# Altium footprint library SOP.PcbLib: 3 footprints
Each footprint in its own frame and in the unit in brackets; x right, y up, seen from the top. Pads: shape width x height; smd on the part's side, far side on the other; paste and mask are expansions set on the pad; w line width, h text height; cw(c..) or ccw(c..) is an arc to the next point about the centre after c.
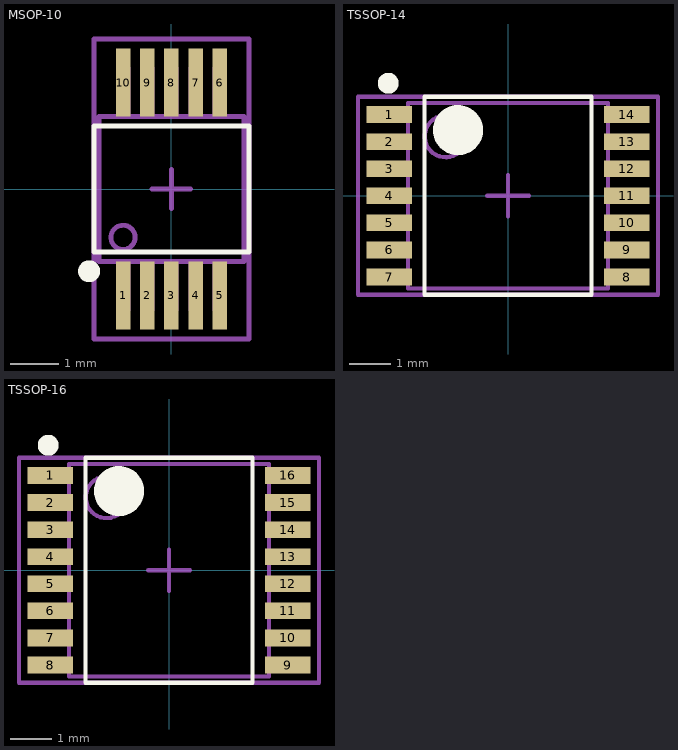
[diagram p0: the footprints below, top view; thin cyan lines are the x and y axes]

## MSOP-10 [mm]
height 1.1
pads (10):
  rect 0.3x1.4 smd: 1(-1,-2.2) 2(-0.5,-2.2) 3(0,-2.2) 4(0.5,-2.2) 5(1,-2.2) 6(1,2.2) 7(0.5,2.2) 8(0,2.2) 9(-0.5,2.2) 10(-1,2.2)
Top Overlay:
  circle w0.254: c-1.7,-1.7 r0.1
  lines w0.1: -1.6,-1.3 1.6,-1.3 1.6,1.3 -1.6,1.3 -1.6,-1.3
Top Package:
  circle w0.1: c-1,-1 r0.25
  lines w0.1: -1.1,-2 -0.9,-2 ; -1.1,-1.5 -1.1,-2.5 -0.9,-2.5 -0.9,-1.5 ; -1.1,1.5 -1.1,2.5 -0.9,2.5 -0.9,1.5 ; -1.1,2 -0.9,2 ; -0.6,-2 -0.4,-2 ; -0.6,-1.5 -0.6,-2.5 -0.4,-2.5 -0.4,-1.5 ; -0.6,1.5 -0.6,2.5 -0.4,2.5 -0.4,1.5 ; -0.6,2 -0.4,2 ; -0.1,-2 0.1,-2 ; -0.1,-1.5 -0.1,-2.5 0.1,-2.5 0.1,-1.5 ; -0.1,1.5 -0.1,2.5 0.1,2.5 0.1,1.5 ; -0.1,2 0.1,2 ; 0.4,-2 0.6,-2 ; 0.4,-1.5 0.4,-2.5 0.6,-2.5 0.6,-1.5 ; 0.4,1.5 0.4,2.5 0.6,2.5 0.6,1.5 ; 0.4,2 0.6,2 ; 0.9,-2 1.1,-2 ; 0.9,-1.5 0.9,-2.5 1.1,-2.5 1.1,-1.5 ; 0.9,1.5 0.9,2.5 1.1,2.5 1.1,1.5 ; 0.9,2 1.1,2 ; -1.5,-1.5 1.5,-1.5 1.5,1.5 -1.5,1.5 -1.5,-1.5
Top Border:
  lines w0.1: -0.4,0 0.4,0 ; 0,-0.4 0,0.4 ; -1.6,-3.1 -1.6,3.1 1.6,3.1 1.6,-3.1 -1.6,-3.1
3D body "MSOP-10.step": height 1.05, standoff 0, extent -1.5,-2.514 1.5,2.514

## TSSOP-14 [mm]
height 1.1
pads (14):
  rect 1.1x0.4 smd: 1(-2.85,1.95) 2(-2.85,1.3) 3(-2.85,0.65) 4(-2.85,0) 5(-2.85,-0.65) 6(-2.85,-1.3) 7(-2.85,-1.95) 8(2.85,-1.95) 9(2.85,-1.3) 10(2.85,-0.65) 11(2.85,0) 12(2.85,0.65) 13(2.85,1.3) 14(2.85,1.95)
Top Overlay:
  circle w0.25: c-2.875,2.7 r0.125
  circle w0.6: c-1.2,1.575 r0.3
  lines w0.1: -2,-2.375 -2,2.375 2,2.375 2,-2.375 -2,-2.375
Top Package:
  circle w0.1: c-1.5,1.425 r0.5
  lines w0.1: -2.4,-2.05 -3.2,-2.05 -3.2,-1.85 -2.4,-1.85 ; -2.4,-1.4 -3.2,-1.4 -3.2,-1.2 -2.4,-1.2 ; -2.4,-0.75 -3.2,-0.75 -3.2,-0.55 -2.4,-0.55 ; -2.4,-0.1 -3.2,-0.1 -3.2,0.1 -2.4,0.1 ; -2.4,0.55 -3.2,0.55 -3.2,0.75 -2.4,0.75 ; -2.4,1.2 -3.2,1.2 -3.2,1.4 -2.4,1.4 ; -2.4,1.85 -3.2,1.85 -3.2,2.05 -2.4,2.05 ; 2.4,-2.05 3.2,-2.05 3.2,-1.85 2.4,-1.85 ; 2.4,-1.4 3.2,-1.4 3.2,-1.2 2.4,-1.2 ; 2.4,-0.75 3.2,-0.75 3.2,-0.55 2.4,-0.55 ; 2.4,-0.1 3.2,-0.1 3.2,0.1 2.4,0.1 ; 2.4,0.55 3.2,0.55 3.2,0.75 2.4,0.75 ; 2.4,1.2 3.2,1.2 3.2,1.4 2.4,1.4 ; 2.4,1.85 3.2,1.85 3.2,2.05 2.4,2.05 ; -2.4,-2.225 2.4,-2.225 2.4,2.225 -2.4,2.225 -2.4,-2.225
Top Border:
  lines w0.1: -0.5,0 0.5,0 ; 0,-0.5 0,0.5 ; -3.6,-2.375 3.6,-2.375 3.6,2.375 -3.6,2.375 -3.6,-2.375
3D body "TSSOP-14.STEP": height 1.2, standoff 0, extent -3.2,-2.5 3.2,2.5

## TSSOP-16 [mm]
height 1.1
pads (16):
  rect 1.1x0.4 smd: 1(-2.85,2.275) 2(-2.85,1.625) 3(-2.85,0.975) 4(-2.85,0.325) 5(-2.85,-0.325) 6(-2.85,-0.975) 7(-2.85,-1.625) 8(-2.85,-2.275) 9(2.85,-2.275) 10(2.85,-1.625) 11(2.85,-0.975) 12(2.85,-0.325) 13(2.85,0.325) 14(2.85,0.975) 15(2.85,1.625) 16(2.85,2.275)
Top Overlay:
  circle w0.25: c-2.9,3 r0.125
  circle w0.6: c-1.2,1.9 r0.3
  lines w0.1: -2,-2.7 -2,2.7 2,2.7 2,-2.7 -2,-2.7
Top Package:
  circle w0.1: c-1.5,1.75 r0.5
  lines w0.1: -2.4,-2.375 -3.2,-2.375 -3.2,-2.175 -2.4,-2.175 ; -2.4,-1.725 -3.2,-1.725 -3.2,-1.525 -2.4,-1.525 ; -2.4,-1.075 -3.2,-1.075 -3.2,-0.875 -2.4,-0.875 ; -2.4,-0.425 -3.2,-0.425 -3.2,-0.225 -2.4,-0.225 ; -2.4,0.225 -3.2,0.225 -3.2,0.425 -2.4,0.425 ; -2.4,0.875 -3.2,0.875 -3.2,1.075 -2.4,1.075 ; -2.4,1.525 -3.2,1.525 -3.2,1.725 -2.4,1.725 ; -2.4,2.175 -3.2,2.175 -3.2,2.375 -2.4,2.375 ; 2.4,-2.375 3.2,-2.375 3.2,-2.175 2.4,-2.175 ; 2.4,-1.725 3.2,-1.725 3.2,-1.525 2.4,-1.525 ; 2.4,-1.075 3.2,-1.075 3.2,-0.875 2.4,-0.875 ; 2.4,-0.425 3.2,-0.425 3.2,-0.225 2.4,-0.225 ; 2.4,0.225 3.2,0.225 3.2,0.425 2.4,0.425 ; 2.4,0.875 3.2,0.875 3.2,1.075 2.4,1.075 ; 2.4,1.525 3.2,1.525 3.2,1.725 2.4,1.725 ; 2.4,2.175 3.2,2.175 3.2,2.375 2.4,2.375 ; -2.4,-2.55 2.4,-2.55 2.4,2.55 -2.4,2.55 -2.4,-2.55
Top Border:
  lines w0.1: -0.5,0 0.5,0 ; 0,-0.5 0,0.5 ; -3.6,-2.7 3.6,-2.7 3.6,2.7 -3.6,2.7 -3.6,-2.7
3D body "TSSOP-16.STEP": height 1.2, standoff 0, extent -3.2,-2.5 3.2,2.5